# Altium footprint library Resistor.PcbLib: 30 footprints (part 2 of 2)
Each footprint in its own frame and in the unit in brackets; x right, y up, seen from the top. Pads: shape width x height; smd on the part's side, far side on the other; paste and mask are expansions set on the pad; w line width, h text height; cw(c..) or ccw(c..) is an arc to the next point about the centre after c.
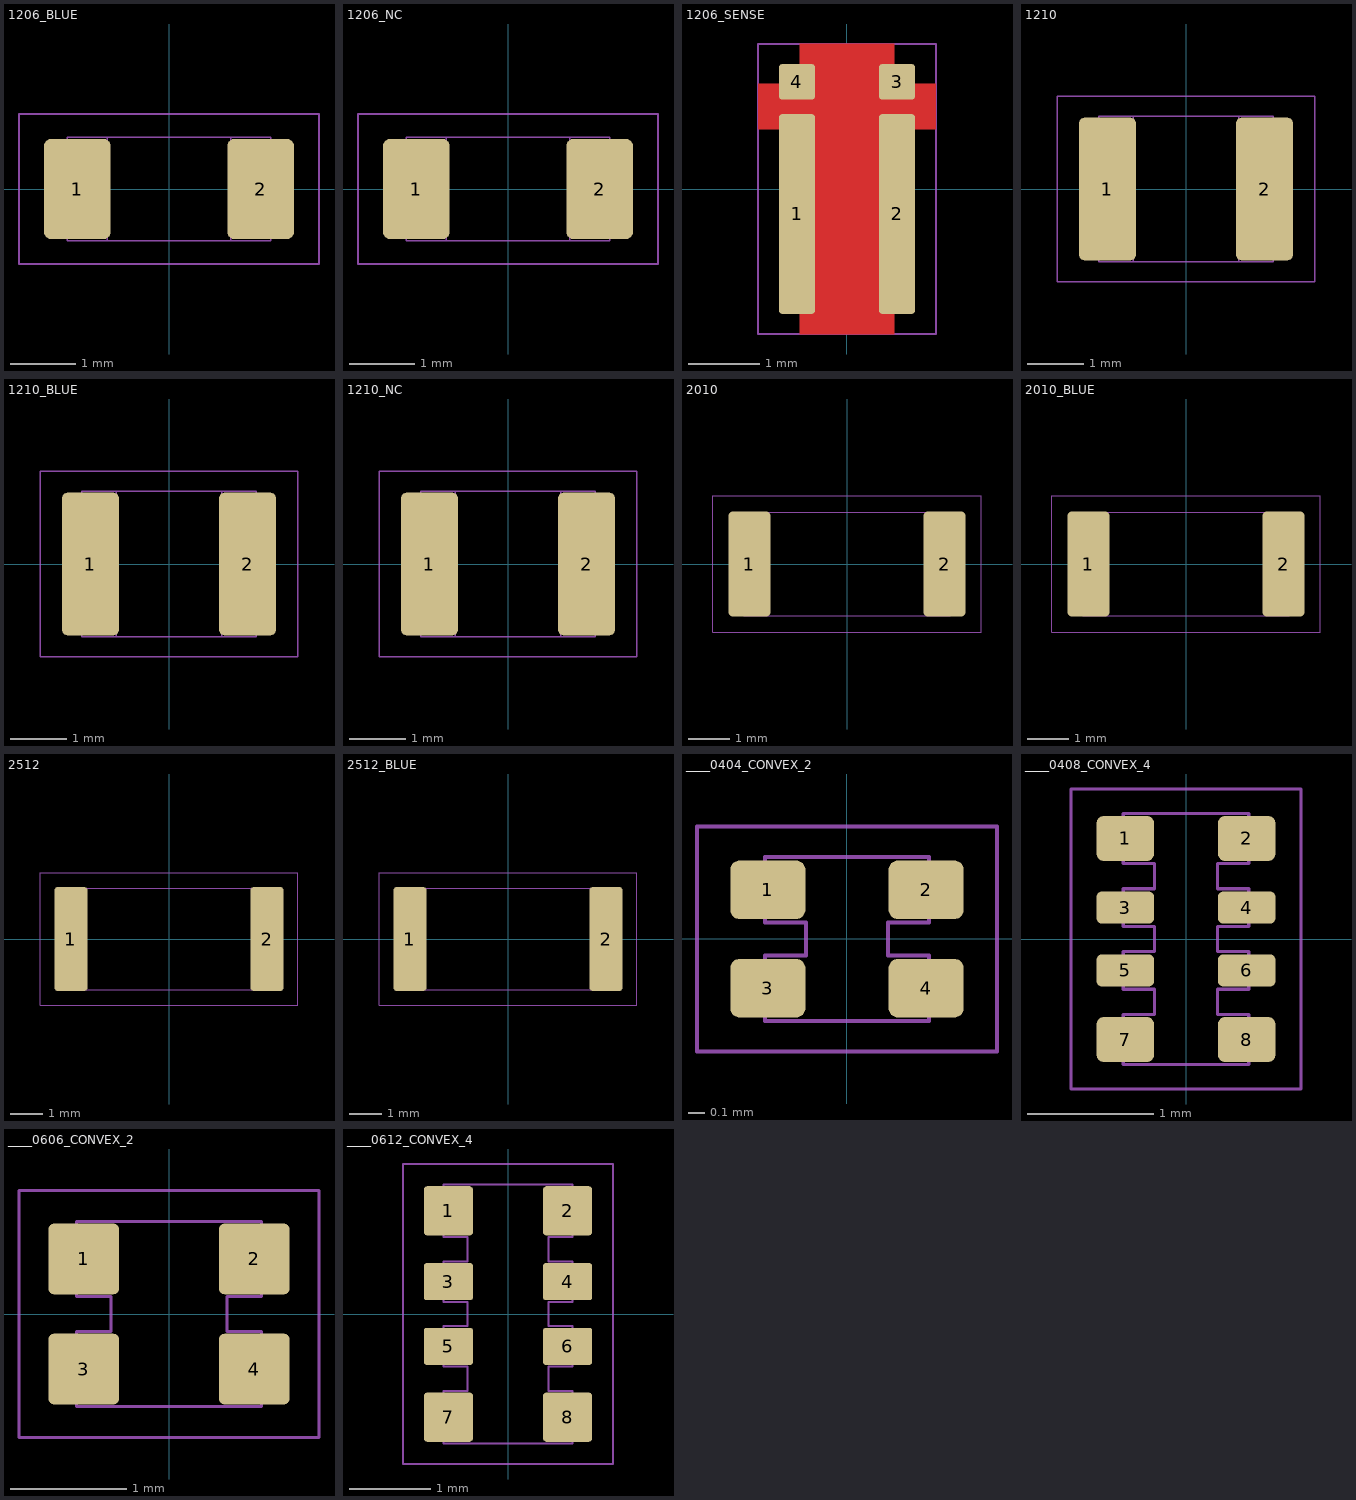
[diagram p1: the footprints below, top view; thin cyan lines are the x and y axes]

## 1206_BLUE [mil]
pads (2):
  rrect20% 40x60 smd mask+2: 1(-55,0) 2(55,0)
Top Designator:
  text ".Designator" at -127.64,-12.5 h35
Top Courtyard:
  lines w1: -90,-45 -90,45 90,45 90,-45 -90,-45
Top Component Outline:
  lines w1: -37,-31 -37,31 ; 37,-31 37,31 ; -61,-31 -61,31 61,31 61,-31 -61,-31
3D body: height 19, standoff 1, extent -60,-31 60,31
3D body: height 20, standoff 19, extent -60,-31 60,31
3D body: height 21, standoff 0, extent -61,-30 -37,30
3D body: height 21, standoff 0, extent 37,-30 61,30

## 1206_NC [mil]
pads (2):
  rrect20% 40x60 smd mask+2: 1(-55,0) 2(55,0)
Top Designator:
  text ".Designator" at -127.64,-12.5 h35
Top Courtyard:
  lines w1: -90,-45 90,-45 90,45 -90,45 -90,-45
Top Component Outline:
  lines w1: -37,-31 -37,31 ; 37,-31 37,31 ; -61,-31 61,-31 61,31 -61,31 -61,-31
3D body: height 1, standoff 0, extent -61,-31 61,31

## 1206_SENSE [mm]
pads (4):
  rrect20% 0.508x2.8 smd mask+0.051: 1(-0.7,-0.35) 2(0.7,-0.35)
  rrect20% 0.508x0.5 smd mask+0.051: 3(0.7,1.5) 4(-0.7,1.5)
Top Layer:
  pour cut-out: -0.66,2.032 -0.66,1.473 -1.245,1.473 -1.245,0.838 -0.66,0.838 -0.66,-2.032 0.66,-2.032 0.66,0.838 1.245,0.838 1.245,1.473 0.66,1.473 0.66,2.032
Top Solder:
  region: 1.092,1.321 -1.092,1.321 -1.092,0.991 1.092,0.991
  rectangle: -0.508,-1.88 0.508,1.88
Top Designator:
  text ".Designator" at 0.317,-3.242 h0.89
Top Courtyard:
  lines w0.025: -1.245,-2.032 1.245,-2.032 1.245,2.032 -1.245,2.032 -1.245,-2.032
Top Component Outline:
  lines w0.025: -0.8,1.05 -0.45,1.05 -0.45,-1.6 ; -0.8,1.25 -0.45,1.25 ; -0.45,1.6 -0.45,1.25 ; 0.45,-1.6 0.45,1.05 0.8,1.05 ; 0.45,1.6 0.45,1.25 0.8,1.25 ; -0.45,1.25 ccw(c-0.45,1.25) -0.45,1.25 ; -0.8,-1.6 0.8,-1.6 0.8,1.6 -0.8,1.6 -0.8,-1.6
3D body: height 0.5, standoff 0.02, extent -0.8,-1.6 0.8,1.6

## 1210 [mil]
pads (2):
  rrect20% 40x100 smd mask+2: 1(-55,0) 2(55,0)
Top Designator:
  text ".Designator" at -127.64,-12.5 h35
Top Courtyard:
  lines w1: -90,-65 -90,65 90,65 90,-65 -90,-65
Top Component Outline:
  lines w1: -37,-51 -37,51 ; 37,-51 37,51 ; -61,-51 -61,51 61,51 61,-51 -61,-51
3D body: height 21, standoff 0, extent 37,-50 61,50
3D body: height 21, standoff 0, extent -61,-50 -37,50
3D body: height 19, standoff 1, extent -60,-51 60,51
3D body: height 20, standoff 19, extent -60,-51 60,51

## 1210_BLUE [mil]
pads (2):
  rrect20% 40x100 smd mask+2: 1(-55,0) 2(55,0)
Top Designator:
  text ".Designator" at -127.64,-12.5 h35
Top Courtyard:
  lines w1: -90,-65 -90,65 90,65 90,-65 -90,-65
Top Component Outline:
  lines w1: -37,-51 -37,51 ; 37,-51 37,51 ; -61,-51 -61,51 61,51 61,-51 -61,-51
3D body: height 21, standoff 0, extent 37,-50 61,50
3D body: height 21, standoff 0, extent -61,-50 -37,50
3D body: height 19, standoff 1, extent -60,-51 60,51
3D body: height 20, standoff 19, extent -60,-51 60,51

## 1210_NC [mil]
pads (2):
  rrect20% 40x100 smd mask+2: 1(-55,0) 2(55,0)
Top Designator:
  text ".Designator" at -127.64,-12.5 h35
Top Courtyard:
  lines w1: -90,-65 -90,65 90,65 90,-65 -90,-65
Top Component Outline:
  lines w1: -37,-51 -37,51 ; 37,-51 37,51 ; -61,-51 61,-51 61,51 -61,51 -61,-51
3D body: height 1, standoff 0, extent -60,-51 60,51

## 2010 [mil]
pads (2):
  rrect20% 40x100 smd mask+2: 1(-93,0) 2(93,0)
Top Designator:
  text ".Designator" at -127.64,-12.5 h35
Top Courtyard:
  lines w1: -128,-65 -128,65 128,65 128,-65 -128,-65
Top Component Outline:
  lines w1: -78.74,-49.21 -78.74,49.21 ; 78.74,-49.21 78.74,49.21 ; -98.43,-49.21 -98.43,49.21 98.43,49.21 98.43,-49.21 -98.43,-49.21
3D body: height 21, standoff 0, extent -99.43,-48.5 -75.43,48.5
3D body: height 20, standoff 19, extent -98.43,-49.21 98.43,49.21
3D body: height 19, standoff 1, extent -98.43,-49.21 98.43,49.21
3D body: height 21, standoff 0, extent 75.43,-48.5 99.43,48.5

## 2010_BLUE [mil]
pads (2):
  rrect20% 40x100 smd mask+2: 1(-93,0) 2(93,0)
Top Designator:
  text ".Designator" at -127.64,-12.5 h35
Top Courtyard:
  lines w1: -128,-65 -128,65 128,65 128,-65 -128,-65
Top Component Outline:
  lines w1: -78.74,-49.21 -78.74,49.21 ; 78.74,-49.21 78.74,49.21 ; -98.43,-49.21 -98.43,49.21 98.43,49.21 98.43,-49.21 -98.43,-49.21
3D body: height 21, standoff 0, extent -99.43,-48.5 -75.43,48.5
3D body: height 20, standoff 19, extent -98.43,-49.21 98.43,49.21
3D body: height 19, standoff 1, extent -98.43,-49.21 98.43,49.21
3D body: height 21, standoff 0, extent 75.43,-48.5 99.43,48.5

## 2512 [mil]
pads (2):
  rrect20% 40x125 smd mask+2: 1(-118,0) 2(118,0)
Top Designator:
  text ".Designator" at -127.64,-12.5 h35
Top Courtyard:
  lines w1: -155,-80 155,-80 155,80 -155,80 -155,-80
Top Component Outline:
  lines w1: -104.33,-61.02 -104.33,61.02 ; 104.33,-61.02 104.33,61.02 ; -124.02,-61.02 124.02,-61.02 124.02,61.02 -124.02,61.02 -124.02,-61.02
3D body: height 21, standoff 0, extent -125.02,-60 -101.02,60
3D body: height 19, standoff 1, extent -124.02,-61.02 124.02,61.02
3D body: height 20, standoff 19, extent -124.02,-61.02 124.02,61.02
3D body: height 21, standoff 0, extent 101.02,-60 125.02,60

## 2512_BLUE [mil]
pads (2):
  rrect20% 40x125 smd mask+2: 1(-118,0) 2(118,0)
Top Designator:
  text ".Designator" at -127.64,-12.5 h35
Top Courtyard:
  lines w1: -155,-80 -155,80 155,80 155,-80 -155,-80
Top Component Outline:
  lines w1: -104.33,-61.02 -104.33,61.02 ; 104.33,-61.02 104.33,61.02 ; -124.02,-61.02 -124.02,61.02 124.02,61.02 124.02,-61.02 -124.02,-61.02
3D body: height 21, standoff 0, extent 101.02,-60 125.02,60
3D body: height 20, standoff 19, extent -124.02,-61.02 124.02,61.02
3D body: height 19, standoff 1, extent -124.02,-61.02 124.02,61.02
3D body: height 21, standoff 0, extent -125.02,-60 -101.02,60

## ____0404_CONVEX_2 [mil]
pads (4):
  rrect30% 18x14 smd mask+2: 1(-19,11.81) 2(19,11.81) 3(-19,-11.81) 4(19,-11.81)
Top Designator:
  text ".Designator" at 7.14,-72.94 h20
Top Courtyard:
  lines w1: -36,-27 -36,27 36,27 36,-27 -36,-27
Top Component Outline:
  lines w1: -19.68,-19.69 -19.68,-3.94 -9.84,-3.94 -9.84,3.94 -19.68,3.94 -19.68,19.69 19.68,19.69 19.68,3.94 9.84,3.94 9.84,-3.94 19.68,-3.94 19.68,-19.69 -19.68,-19.69
3D body: height 13.9, standoff 0.1, extent -19.68,-19.69 19.68,19.69
3D body: height 15.2, standoff 13.9, extent -8,-19.69 8,19.69
3D body: height 14.5, standoff 0, extent 7.19,4.81 20.18,18.81
3D body: height 14.5, standoff 0, extent -20.18,4.81 -7.19,18.81
3D body: height 14.5, standoff 0, extent 7.19,-18.81 20.18,-4.81
3D body: height 14.5, standoff 0, extent -20.18,-18.81 -7.19,-4.81

## ____0408_CONVEX_4 [mil]
pads (8):
  rrect30% 18x14 smd mask+2: 1(-19,31.5) 2(19,31.5) 7(-19,-31.5) 8(19,-31.5)
  rrect30% 18x10 smd mask+2: 3(-19,9.84) 4(19,9.84) 5(-19,-9.84) 6(19,-9.84)
Top Designator:
  text ".Designator" at 7.14,-72.94 h20
Top Courtyard:
  lines w1: -36,-47 36,-47 36,47 -36,47 -36,-47
Top Component Outline:
  lines w1: -19.68,-39.37 19.68,-39.37 19.68,-23.62 9.84,-23.62 9.84,-15.75 19.68,-15.75 19.68,-3.94 9.84,-3.94 9.84,3.94 19.68,3.94 19.68,15.75 9.84,15.75 9.84,23.62 19.68,23.62 19.68,39.37 -19.68,39.37 -19.68,23.62 -9.84,23.62 -9.84,15.75 -19.68,15.75 -19.68,3.94 -9.84,3.94 -9.84,-3.94 -19.68,-3.94 -19.68,-15.75 -9.84,-15.75 -9.84,-23.62 -19.68,-23.62 -19.68,-39.37
3D body: height 14.5, standoff 0, extent -20.18,4.84 -7.19,14.84
3D body: height 13.9, standoff 0.1, extent -19.68,-39.37 19.68,39.37
3D body: height 15.2, standoff 13.9, extent -8,-39 8,39
3D body: height 14.5, standoff 0, extent -20.18,-14.84 -7.19,-4.84
3D body: height 14.5, standoff 0, extent 7.19,-14.84 20.18,-4.84
3D body: height 14.5, standoff 0, extent 7.19,4.84 20.18,14.84
3D body: height 14.5, standoff 0, extent -20.18,-38.5 -7.19,-24.5
3D body: height 14.5, standoff 0, extent 7.19,-38.5 20.18,-24.5
3D body: height 14.5, standoff 0, extent -20.18,24.5 -7.19,38.5
3D body: height 14.5, standoff 0, extent 7.19,24.5 20.18,38.5

## ____0606_CONVEX_2 [mil]
pads (4):
  rrect15% 24x24 smd mask+2: 1(-29,18.7) 2(29,18.7) 3(-29,-18.7) 4(29,-18.7)
Top Designator:
  text ".Designator" at 7.14,-72.94 h20
Top Courtyard:
  lines w1: -51,-42 51,-42 51,42 -51,42 -51,-42
Top Component Outline:
  lines w1: -31.5,-31.5 31.5,-31.5 31.5,-5.91 19.69,-5.91 19.69,5.91 31.5,5.91 31.5,31.5 -31.5,31.5 -31.5,5.91 -19.69,5.91 -19.69,-5.91 -31.5,-5.91 -31.5,-31.5
3D body: height 21, standoff 0, extent 15.93,6.74 31,30.5
3D body: height 21, standoff 0, extent -31,6.74 -15.93,30.5
3D body: height 21, standoff 0, extent -31,-30.5 -15.93,-6.74
3D body: height 21, standoff 0, extent 15.93,-30.5 31,-6.74
3D body: height 20.5, standoff 20, extent -19.69,-31.5 19.69,31.5
3D body: height 20, standoff 1, extent -19.69,-31.5 19.69,31.5

## ____0612_CONVEX_4 [mil]
pads (8):
  rrect15% 24x24 smd mask+2: 1(-29,50.2) 2(29,50.2) 7(-29,-50.2) 8(29,-50.2)
  rrect15% 24x18 smd mask+2: 3(-29,15.75) 4(29,15.75) 5(-29,-15.75) 6(29,-15.75)
Top Designator:
  text ".Designator" at 7.14,-72.94 h20
Top Courtyard:
  lines w1: -51,-73 -51,73 51,73 51,-73 -51,-73
Top Component Outline:
  lines w1: -31.5,-62.99 -31.5,-37.4 -19.69,-37.4 -19.69,-25.59 -31.5,-25.59 -31.5,-5.91 -19.69,-5.91 -19.69,5.91 -31.5,5.91 -31.5,25.59 -19.69,25.59 -19.69,37.4 -31.5,37.4 -31.5,62.99 31.5,62.99 31.5,37.4 19.69,37.4 19.69,25.59 31.5,25.59 31.5,5.91 19.69,5.91 19.69,-5.91 31.5,-5.91 31.5,-25.59 19.69,-25.59 19.69,-37.4 31.5,-37.4 31.5,-62.99 -31.5,-62.99
3D body: height 20.5, standoff 20, extent -19.68,-62.99 19.68,62.99
3D body: height 20, standoff 1, extent -19.68,-62.99 19.68,62.99
3D body: height 21, standoff 0, extent -31,38.24 -15.93,62
3D body: height 21, standoff 0, extent -30.93,6.74 -15.93,24.74
3D body: height 21, standoff 0, extent -30.93,-24.76 -15.93,-6.76
3D body: height 21, standoff 0, extent 15.93,-24.74 30.93,-6.74
3D body: height 21, standoff 0, extent 15.93,6.76 30.93,24.76
3D body: height 21, standoff 0, extent 15.93,-62 31,-38.24
3D body: height 21, standoff 0, extent -31,-62 -15.93,-38.24
3D body: height 21, standoff 0, extent 15.93,38.24 31,62